# Altium integrated library Regulator_Linear.IntLib: 29 symbols
Pins are listed as number, name and electrical type; pins without a type are passive.

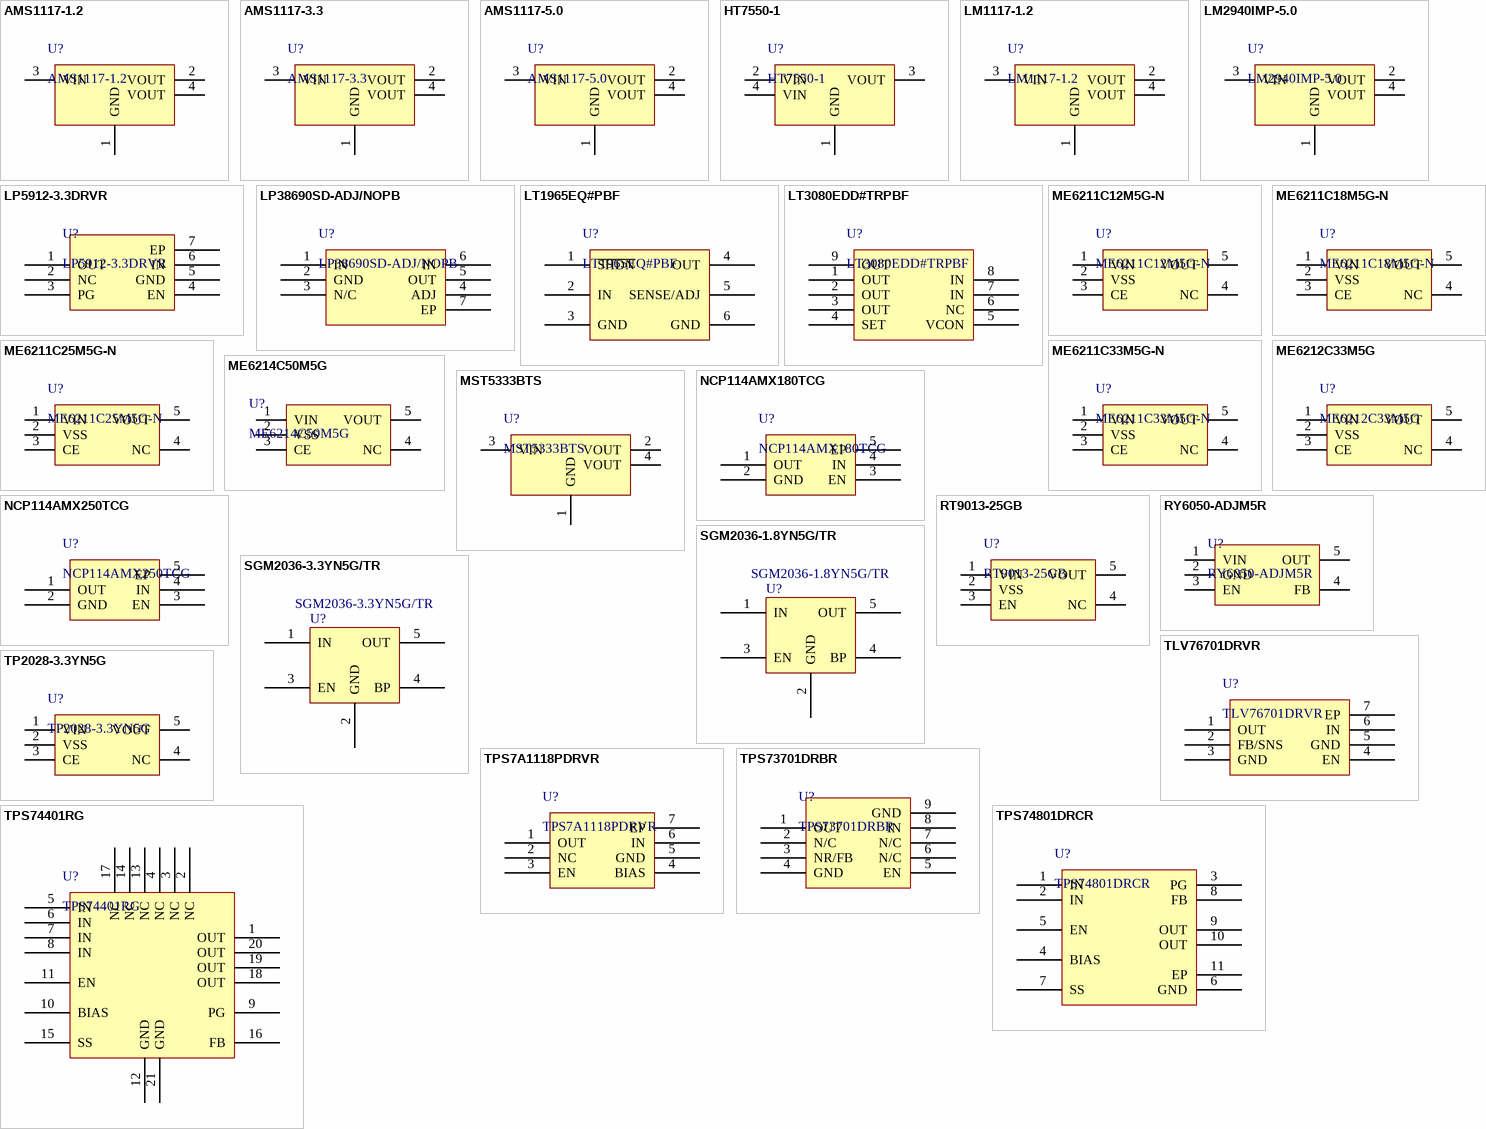
[diagram p0: symbols AMS1117-1.2 to TPS74801DRCR]

## AMS1117-1.2
designator U?
1A LOW DROPOUT VOLTAGE REGULATOR
footprint SOT-89 (SOT89, 3-Leads, Body 4.50x2.45mm, Pitch 1.50mm, Lead Span 4.1mm, IPC Medium Density)
footprint SOT-223 (SOT223, 4-Leads, Body 6.50x7.00mm (avg), Pitch 2.30mm, IPC Medium Density)
pins: 1 GND, 2 VOUT, 3 VIN, 4 VOUT

## AMS1117-3.3
designator U?
1A LOW DROPOUT VOLTAGE REGULATOR
footprint SOT-89 (SOT89, 3-Leads, Body 4.50x2.45mm, Pitch 1.50mm, Lead Span 4.1mm, IPC Medium Density)
footprint SOT-223 (SOT223, 4-Leads, Body 6.50x7.00mm (avg), Pitch 2.30mm, IPC Medium Density)
pins: 1 GND, 2 VOUT, 3 VIN, 4 VOUT

## AMS1117-5.0
designator U?
1A LOW DROPOUT VOLTAGE REGULATOR
footprint SOT-89 (SOT89, 3-Leads, Body 4.50x2.45mm, Pitch 1.50mm, Lead Span 4.1mm, IPC Medium Density)
footprint SOT-223 (SOT223, 4-Leads, Body 6.50x7.00mm (avg), Pitch 2.30mm, IPC Medium Density)
pins: 1 GND, 2 VOUT, 3 VIN, 4 VOUT

## HT7550-1
designator U?
5.0V固定输出，Iout=150mA(typ)，Vin=30V(Max)
footprint SOT-89 (SOT89, 3-Leads, Body 4.50x2.45mm, Pitch 1.50mm, Lead Span 4.1mm, IPC Medium Density)
pins: 1 GND, 2 VIN, 3 VOUT, 4 VIN

## LM1117-1.2
designator U?
1A LOW DROPOUT VOLTAGE REGULATOR
footprint SOT-223 (SOT223, 4-Leads, Body 6.50x7.00mm (avg), Pitch 2.30mm, IPC Medium Density)
pins: 1 GND, 2 VOUT, 3 VIN, 4 VOUT

## LM2940IMP-5.0
designator U?
LINEAR 5V 1A
footprint SOT-223 (SOT223, 4-Leads, Body 6.50x7.00mm (avg), Pitch 2.30mm, IPC Medium Density)
pins: 1 GND, 2 VOUT, 3 VIN, 4 VOUT

## LP5912-3.3DRVR
designator U?
LP5912 500mA 低噪声、低 IQ LDO
footprint WSON-6_L2.0-W2.0-P0.65-TL-EP
pins: 1 OUT, 2 NC, 3 PG, 4 EN, 5 GND, 6 IN, 7 EP

## LP38690SD-ADJ/NOPB
designator U?
具有可调输出的 LP38690-ADJ，LP38692-ADJ 1A 低压降 CMOS 线性稳压器
footprint WSON-6-1EP_3x3mm_P0.95_EP2.1x1.6mm (SON, 6-Leads, Body 3.00x3.00mm, Pitch 0.95mm, Thermal Pad 2.10x1.58mm, IPC Medium Density)
pins: 1 IN, 2 GND, 3 N/C, 4 ADJ, 5 OUT, 6 IN, 7 EP

## LT1965EQ#PBF
designator U?
1.1A, Low Noise,Low Dropout Linear Regulator
footprint DD-PAK-5_L10.6-W10.3-P1.70-LS14.5-BR
pins: 1 ~{SHDN}, 2 IN, 3 GND, 4 OUT, 5 SENSE/ADJ, 6 GND

## LT3080EDD#TRPBF
designator U?
Adjustable1.1A Single Resistor Low Dropout Regulator
footprint DFN-8_1EP_3x3mm_P0.5mm_EP1.65x2.38mm (QFN, 8-Leads, Body 3.00x3.00mm, Pitch 0.50mm, Thermal Pad 1.65x2.38mm, IPC Medium Density)
pins: 1 OUT, 2 OUT, 3 OUT, 4 SET, 5 VCON, 6 NC, 7 IN, 8 IN, 9 OUT

## ME6211C12M5G-N
designator U?
正 Vin=6.5V Vout=1.2V 300mA 70dB@(1kHz) / 高精度、高纹波抑制比、低噪声、超快响应线性稳压器
footprint SOT-23-5 (SOT23, 5-Leads, Body 2.90x2.45mm, Pitch 0.95mm, IPC Medium Density)
pins: 1 VIN, 2 VSS, 3 CE, 4 NC, 5 VOUT

## ME6211C18M5G-N
designator U?
正 Vin=6.5V Vout=1.8V 300mA 70dB@(1kHz) / 高精度、高纹波抑制比、低噪声、超快响应线性稳压器
footprint SOT-23-5 (SOT23, 5-Leads, Body 2.90x2.45mm, Pitch 0.95mm, IPC Medium Density)
pins: 1 VIN, 2 VSS, 3 CE, 4 NC, 5 VOUT

## ME6211C25M5G-N
designator U?
正 Vin=6V Vout=2.5V 300mA 70dB 高精度、高纹波抑制比、低噪声、超快响应线性稳压器
footprint SOT-23-5 (SOT23, 5-Leads, Body 2.90x2.45mm, Pitch 0.95mm, IPC Medium Density)
pins: 1 VIN, 2 VSS, 3 CE, 4 NC, 5 VOUT

## ME6211C33M5G-N
designator U?
正 Vin=6V Vout=3.3V 500mA 70dB 高精度、高纹波抑制比、低噪声、超快响应线性稳压器
footprint SOT-23-5 (SOT23, 5-Leads, Body 2.90x2.45mm, Pitch 0.95mm, IPC Medium Density)
pins: 1 VIN, 2 VSS, 3 CE, 4 NC, 5 VOUT

## ME6212C33M5G
designator U?
高精度、高纹波抑制比、低噪声、超快响应线性稳压器
footprint SOT-23-5 (SOT23, 5-Leads, Body 2.90x2.45mm, Pitch 0.95mm, IPC Medium Density)
pins: 1 VIN, 2 VSS, 3 CE, 4 NC, 5 VOUT

## ME6214C50M5G
designator U?
输入18V 输出5V 300mA
footprint SOT-23-5 (SOT23, 5-Leads, Body 2.90x2.45mm, Pitch 0.95mm, IPC Medium Density)
pins: 1 VIN, 2 VSS, 3 CE, 4 NC, 5 VOUT

## MST5333BTS
designator U?
LOW DROPOUT VOLTAGE REGULATOR
footprint SOT-89 (SOT89, 3-Leads, Body 4.50x2.45mm, Pitch 1.50mm, Lead Span 4.1mm, IPC Medium Density)
pins: 1 GND, 2 VOUT, 3 VIN, 4 VOUT

## NCP114AMX180TCG
designator U?
1.8V LDO 稳压器，300 mA，高 PSRR
footprint UDFN-4_L1.0-W1.0-P0.65-BL-EP
pins: 1 OUT, 2 GND, 3 EN, 4 IN, 5 EP

## NCP114AMX250TCG
designator U?
2.5V LDO 稳压器，300 mA，高 PSRR
footprint UDFN-4_L1.0-W1.0-P0.65-BL-EP
pins: 1 OUT, 2 GND, 3 EN, 4 IN, 5 EP

## RT9013-25GB
designator U?
正 Vin=5.5V Vout=2.5V 500mA 50dB@(10kHz) / 500mA, Low Dropout, Low Noise Ultra-Fast Without / Bypass Capacitor CMOS LDO Regulator
footprint SOT-23-5 (SOT23, 5-Leads, Body 2.90x2.45mm, Pitch 0.95mm, IPC Medium Density)
pins: 1 VIN, 2 VSS, 3 EN, 4 NC, 5 VOUT

## RY6050-ADJM5R
designator U?
500mA Adjustable High-Speed Low Power LDO
footprint SOT-23-5 (SOT23, 5-Leads, Body 2.90x2.45mm, Pitch 0.95mm, IPC Medium Density)
pins: 1 VIN, 2 GND, 3 EN, 4 FB, 5 OUT

## SGM2036-1.8YN5G/TR
designator U?
footprint SOT-23-5 (SOT23, 5-Leads, Body 2.90x2.45mm, Pitch 0.95mm, IPC Medium Density)
pins: 1 IN, 2 GND, 3 EN, 4 BP, 5 OUT

## SGM2036-3.3YN5G/TR
designator U?
footprint SOT-23-5 (SOT23, 5-Leads, Body 2.90x2.45mm, Pitch 0.95mm, IPC Medium Density)
pins: 1 IN, 2 GND, 3 EN, 4 BP, 5 OUT

## TLV76701DRVR
designator U?
TLV767 1A、16V 精密线性稳压器
footprint WSON-6-1EP_2x2mm_P0.65_EP1.6x1mm (SON, 6-Leads, Body 2.00x2.00mm, Pitch 0.65mm, Thermal Pad 1.60x0.98mm, IPC Medium Density)
pins: 1 OUT, 2 FB/SNS, 3 GND, 4 EN, 5 GND, 6 IN, 7 EP

## TP2028-3.3YN5G
designator U?
500mA Hight PSRR Voltage Reaulators
footprint SOT-23-5 (SOT23, 5-Leads, Body 2.90x2.45mm, Pitch 0.95mm, IPC Medium Density)
pins: 1 VIN, 2 VSS, 3 CE, 4 NC, 5 VOUT

## TPS7A1118PDRVR
designator U?
TPS7A11 500-mA 低输入电压、低输出电压、超低压降稳压器
footprint WSON-6-1EP_2x2mm_P0.65_EP1.6x1mm (SON, 6-Leads, Body 2.00x2.00mm, Pitch 0.65mm, Thermal Pad 1.60x0.98mm, IPC Medium Density)
pins: 1 OUT, 2 NC, 3 EN, 4 BIAS, 5 GND, 6 IN, 7 EP

## TPS73701DRBR
designator U?
具有反向电流保护功能的 TPS737xx 1A 低压降稳压器
footprint VSON-8-1EP_3x3mm_P0.65mm_EP1.5x1.75mm (SON, 8-Leads, Body 6.55x3.00mm, Pitch 0.65mm, Thermal Pad 1.75x1.50mm, IPC Medium Density)
pins: 1  OUT, 2 N/C, 3 NR/FB, 4 GND, 5 EN, 6 N/C, 7 N/C, 8 IN, 9 GND

## TPS74401RG
designator U?
TPS74401 具有可编程软启动功能的 3.0A Ultra-LDO
footprint QFN-20-1EP_5x5mm_P0.65_EP3.15x3.15mm (QFN, 20-Leads, Body 5.00x4.00mm, Pitch 0.65mm, Thermal Pad 3.15x3.15mm, IPC Medium Density)
pins: 1 OUT, 2 NC, 3 NC, 4 NC, 5 IN, 6 IN, 7 IN, 8 IN, 9 PG, 10 BIAS, 11 EN, 12 GND, 13 NC, 14 NC, 15 SS, 16 FB, 17 NC, 18 OUT, 19 OUT, 20 OUT, 21 GND

## TPS74801DRCR
designator U?
TPS748 1.5-A Low-Dropout Linear Regulator With Programmable Soft-Start
footprint VSON-10-1EP_3x3mm_P0.5mm_EP1.65x2.4mm (SON, 10-Leads, Body 3.00x3.00mm, Pitch 0.50mm, Thermal Pad 2.40x1.58mm, IPC Medium Density)
pins: 1 IN, 2 IN, 3 PG, 4 BIAS, 5 EN, 6 GND, 7 SS, 8 FB, 9 OUT, 10 OUT, 11 EP